# Altium footprint library Crystal.PcbLib: 10 footprints
Each footprint in its own frame and in the unit in brackets; x right, y up, seen from the top. Pads: shape width x height; smd on the part's side, far side on the other; paste and mask are expansions set on the pad; w line width, h text height; cw(c..) or ccw(c..) is an arc to the next point about the centre after c.
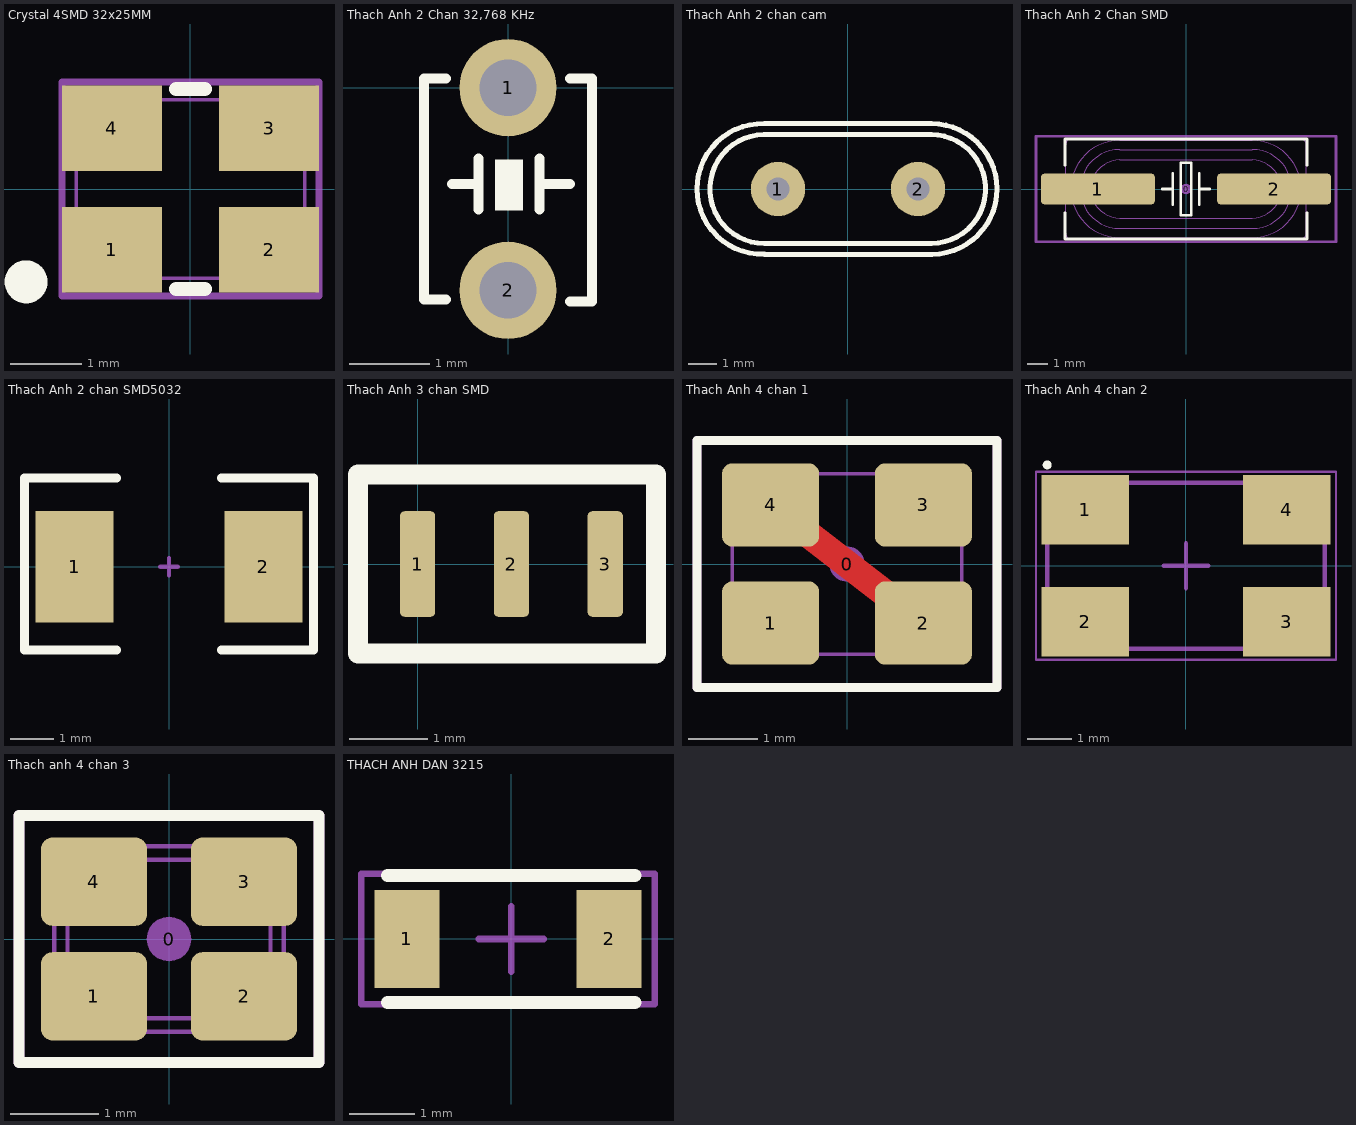
[diagram p0: the footprints below, top view; thin cyan lines are the x and y axes]

## Crystal 4SMD 32x25MM [mm]
pads (4):
  rect 1.4x1.2 smd: 1(-1.1,-0.85) 2(1.1,-0.85) 3(1.1,0.85) 4(-1.1,0.85)
Top Overlay:
  circle w0.4: c-2.3,-1.3 r0.1
  lines w0.2: -0.2,-1.4 0.2,-1.4 ; -0.2,1.4 0.2,1.4
Mechanical 13:
  circle w0.28: c-1.059,-0.8 r0.141
  lines w0.05: -1.6,-1.25 1.6,-1.25 1.6,1.25 -1.6,1.25 -1.6,-1.25
Mechanical 15:
  circle w0.1: c-1.2,-0.9 r0.4
  lines w0.1: -1.8,-1.5 -1.8,1.5 1.8,1.5 1.8,-1.5 -1.8,-1.5
3D body "User Library-3225-1.step": height 0.62, standoff 0.01, extent -1.6,-1.25 1.6,1.25

## Thach Anh 2 Chan 32,768 KHz [mil]
pads (2):
  round 48 hole 28: 1(0,0) 2(0,-100)
Top Overlay:
  rectangle: -6.5,-60.5 7.5,-35.5
  lines w5: -30.5,-104.5 -41.5,-104.5 -41.5,4.5 -30.5,4.5 ; -27.5,-47.5 -14.5,-47.5 ; -14.5,-60 -14.5,-35 ; 15.5,-60 15.5,-35 ; 15.5,-47.5 30.5,-47.5 ; 30.5,-105.5 41.5,-105.5 41.5,4.5 30.5,4.5
3D body "User Library-R38_100mils.STEP": height 347.83, standoff -93.11, extent -40,-100.12 42.68,10.12

## Thach Anh 2 chan cam [mm]
pads (2):
  round 1.905 hole 0.8: 1(-2.45,0) 2(2.45,0)
Top Overlay:
  lines w0.178: -2.939,1.905 ccw(c-2.927,0) -2.921,-1.905 2.921,-1.905 ccw(c2.908,0) 2.903,1.905 ; -2.922,-2.283 cw(c-2.998,0.001) -2.921,2.286 2.921,2.286 cw(c2.928,0) 2.943,-2.286 ; -2.921,-2.286 2.921,-2.286 ; -2.921,1.905 2.921,1.905
3D body "SW3dPS-HP49US.STEP": height 3.5, standoff -4, extent -5.675,-2.364 5.675,2.286

## Thach Anh 2 Chan SMD [mm] "SMD Crystal HC49/US-SM package"
height 4.3
pads (3):
  round 0.508 on Mech15: 0(0,0)
  rrect25% 5.5x1.5 smd: 1(-4.25,0) 2(4.25,0)
Top Overlay:
  lines w0.127: -5.842,-1.143 -5.842,-2.413 5.842,-2.413 5.842,-1.143 ; -5.842,1.143 -5.842,2.413 5.842,2.413 5.842,1.143 ; -1.143,0 -0.635,0 ; -0.635,-0.762 -0.635,0.762 ; 0.635,-0.762 0.635,0.762 ; 0.635,0 1.143,0 ; -0.254,-1.27 -0.254,1.27 0.254,1.27 0.254,-1.27 -0.254,-1.27
Mechanical 13:
  lines w0.05: -5.8,-0.45 -6.4,-0.45 -6.4,0.45 -5.8,0.45 ; 5.8,-0.45 6.4,-0.45 6.4,0.45 5.8,0.45 ; -5.8,-2.165 ccw(c-5.55,-2.165) -5.55,-2.415 5.55,-2.415 ccw(c5.55,-2.165) 5.8,-2.165 5.8,2.165 ccw(c5.55,2.165) 5.55,2.415 -5.55,2.415 ccw(c-5.55,2.165) -5.8,2.165 -5.8,-2.165 ; -3.2,-2.35 cw(c-3.2,0) -3.2,2.35 3.2,2.35 cw(c3.2,0) 3.2,-2.35 -3.2,-2.35 ; -3.2,-1.9 cw(c-3.2,0) -3.2,1.9 3.2,1.9 cw(c3.2,0) 3.2,-1.9 -3.2,-1.9 ; -3.2,-1.4 cw(c-3.2,0) -3.2,1.4 3.2,1.4 cw(c3.2,0) 3.2,-1.4 -3.2,-1.4
Mechanical 15:
  lines w0.127: -7.239,-2.54 -7.239,2.54 7.239,2.54 7.239,-2.54 -7.239,-2.54
3D body "Crystal HC49_US-SM.STEP": height 4.29, standoff -0.01, extent -6.4,-2.415 6.4,2.415

## Thach Anh 2 chan SMD5032 [mil] "DO-214-AA/SMB; 2 C-Bend Leads; Body 5.3 x 3.6 mm, inc. leads (LxW)"
height 100
pads (2):
  rect 70x100 smd: 1(-85,0) 2(85,0)
Top Overlay:
  lines w7.87: -47.24,-75 -130,-75 -130,80 -47.24,80 ; 47.24,-75 130,-75 130,80 47.24,80
Mechanical 1:
  lines w3.94: -7.87,0 7.87,0 ; 0,-7.87 0,7.87
3D body "User Library-ABM3-1.STEP": height 51.18, standoff 0, extent -98.42,-62.99 98.43,63

## Thach Anh 3 chan SMD [mm] "SMD Crystal CMR309T package"
height 3.1
pads (3):
  rrect25% 0.45x1.35 smd: 1(0,0) 2(1.2,0) 3(2.4,0)
Top Overlay:
  lines w0.254: -0.762,-1.143 -0.762,1.143 3.048,1.143 3.048,-1.143 -0.762,-1.143
3D body "SW3dPS-CSTCE_V-1.STEP": height 1.02, standoff -0.09, extent -0.411,-0.627 2.789,0.673

## Thach Anh 4 chan 1 [mm] "SMD Crystal 4-lead leadless package"
height 0.8
pads (5):
  round 0.508 on Mech15: 0(0,0)
  rrect25% 1.4x1.2 smd: 1(-1.1,-0.85) 2(1.1,-0.85) 3(1.1,0.85) 4(-1.1,0.85)
Top Layer:
  lines w0.4: -1.1,0.85 1.1,-0.85
Top Overlay:
  lines w0.127: -2.159,-1.778 -2.159,1.778 2.159,1.778 2.159,-1.778 -2.159,-1.778
Mechanical 13:
  lines w0.05: -1.65,-1.143 -1.493,-1.3 1.493,-1.3 1.65,-1.143 1.65,1.144 1.494,1.3 -1.493,1.3 -1.65,1.143 -1.65,-1.143
Mechanical 15:
  lines w0.127: -2.159,-1.778 2.159,-1.778 2.159,1.778 -2.159,1.778 -2.159,-1.778
3D body "Crystal TXC Corp 7M series.STEP": height 0.8, standoff 0, extent -1.65,-1.3 1.65,1.3

## Thach Anh 4 chan 2 [mm]
height 1.1
pads (4):
  rect 1.95x1.55 smd: 1(-2.25,1.25) 2(-2.25,-1.25) 3(2.25,-1.25) 4(2.25,1.25)
Top Overlay:
  circle w0.1: c-3.1,2.25 r0.05
Mechanical 1:
  lines w0.1: -3.1,-1.85 3.1,-1.85 3.1,1.85 -3.1,1.85 -3.1,-1.85
Mechanical 15:
  lines w0.05: -3.35,-2.1 3.35,-2.1 3.35,2.1 -3.35,2.1 -3.35,-2.1
  lines w0.1: -0.5,0 0.5,0 ; 0,-0.5 0,0.5
3D body "DFN3127P600-8N.step": height 1.1, standoff 0, extent -3.1,-1.95 3.9,1.95

## Thach anh 4 chan 3 [mm] "SMD Crystal 4-lead leadless package"
height 0.55
pads (5):
  round 0.508 on Mech15: 0(0,0)
  rrect25% 1.2x1 smd mask+0.075: 1(-0.85,-0.65) 2(0.85,-0.65) 3(0.85,0.65) 4(-0.85,0.65)
Top Overlay:
  lines w0.127: -1.7,-1.4 1.7,-1.4 1.7,1.4 -1.7,1.4 -1.7,-1.4
Mechanical 13:
  lines w0.05: -1.3,-0.87 cw(c-1.3,-1.05) -1.12,-1.05 1.12,-1.05 cw(c1.3,-1.05) 1.3,-0.87 1.3,0.87 cw(c1.3,1.05) 1.12,1.05 -1.12,1.05 cw(c-1.3,1.05) -1.3,0.87 -1.3,-0.87 ; -1.15,-0.75 ccw(c-1,-0.75) -1,-0.9 1,-0.9 ccw(c1,-0.75) 1.15,-0.75 1.15,0.75 ccw(c1,0.75) 1,0.9 -1,0.9 ccw(c-1,0.75) -1.15,0.75 -1.15,-0.75
Mechanical 15:
  lines w0.127: -1.7,-1.4 -1.7,1.4 1.7,1.4 1.7,-1.4 -1.7,-1.4
3D body "Crystal NDK NX2520SA series.STEP": height 0.55, standoff 0, extent -1.3,-1.05 1.3,1.05

## THACH ANH DAN 3215 [mm] "Thach Anh Dan 5.08mm"
height 3
pads (2):
  rect 1x1.5 smd: 1(-1.6,0) 2(1.5,0)
Top Overlay:
  lines w0.2: -1.9,-0.975 1.9,-0.975 ; -1.9,0.975 1.9,0.975
Mechanical 13:
  lines w0.1: -2.3,-1 -2.3,1 2.2,1 2.2,-1 -2.3,-1
Mechanical 15:
  lines w0.1: -0.5,0 0.5,0 ; 0,-0.5 0,0.5
3D body "User Library-NDK_NX3215SA.STEP": height 0.8, standoff 0, extent -1.6,-0.75 1.6,0.75